# EAGLE library part NC7WZ17 (library fairchild-semi)
Fairchild Semi: Dual Schmitt trigger buffer in SC-70-6 package
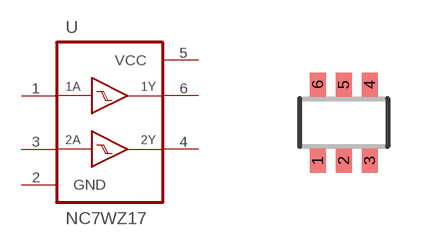
[diagram p2: symbol with the pads of SC70-6; footprint SC70-6]

Designator prefix U

## NC7WZ17DCK (DIGIKEY: NC7WZ17P6XCT-ND; P1I: o)  [SC70-6]
1  1A  in
2  GND  pwr
3  2A  in
4  2Y  out
5  VCC  pwr
6  1Y  out

## Footprint SC70-6 (pad centres in mm)
SC70-6 0.65 mm pitch
smd 0.4 x 0.6: 1 -0.65,-0.95; 2 0,-0.95; 3 0.65,-0.95; 4 0.65,0.95; 5 0,0.95; 6 -0.65,0.95